# Altium schematic symbol library FUSE_SMD.SchLib: 6 symbols
Pins are listed as number, name and electrical type; pins without a type are passive.

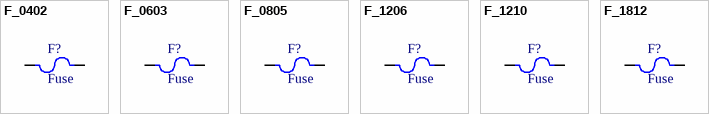
[diagram p0: symbols F_0402 to F_1812]

## F_0402
designator F?, comment Fuse
0402 SMD Fuse.
footprint F_0402 (Fuse SMD 0402.)
pins: 1, 2

## F_0603
designator F?, comment Fuse
0603 SMD Fuse.
footprint F_0603 (Fuse SMD 0603.)
pins: 1, 2

## F_0805
designator F?, comment Fuse
0805 SMD Fuse.
footprint F_0805 (Fuse SMD 0805.)
pins: 1, 2

## F_1206
designator F?, comment Fuse
1206 SMD Fuse.
footprint F_1206 (Fuse SMD 1206.)
pins: 1, 2

## F_1210
designator F?, comment Fuse
1210 SMD Fuse.
footprint F_1210 (Fuse SMD 1210.)
pins: 1, 2

## F_1812
designator F?, comment Fuse
1812 SMD Fuse.
footprint F_1812 (Fuse SMD 1812.)
pins: 1, 2